# Altium footprint library AudioAmp.PcbLib: 21 footprints (part 2 of 2)
Each footprint in its own frame and in the unit in brackets; x right, y up, seen from the top. Pads: shape width x height; smd on the part's side, far side on the other; paste and mask are expansions set on the pad; w line width, h text height; cw(c..) or ccw(c..) is an arc to the next point about the centre after c.
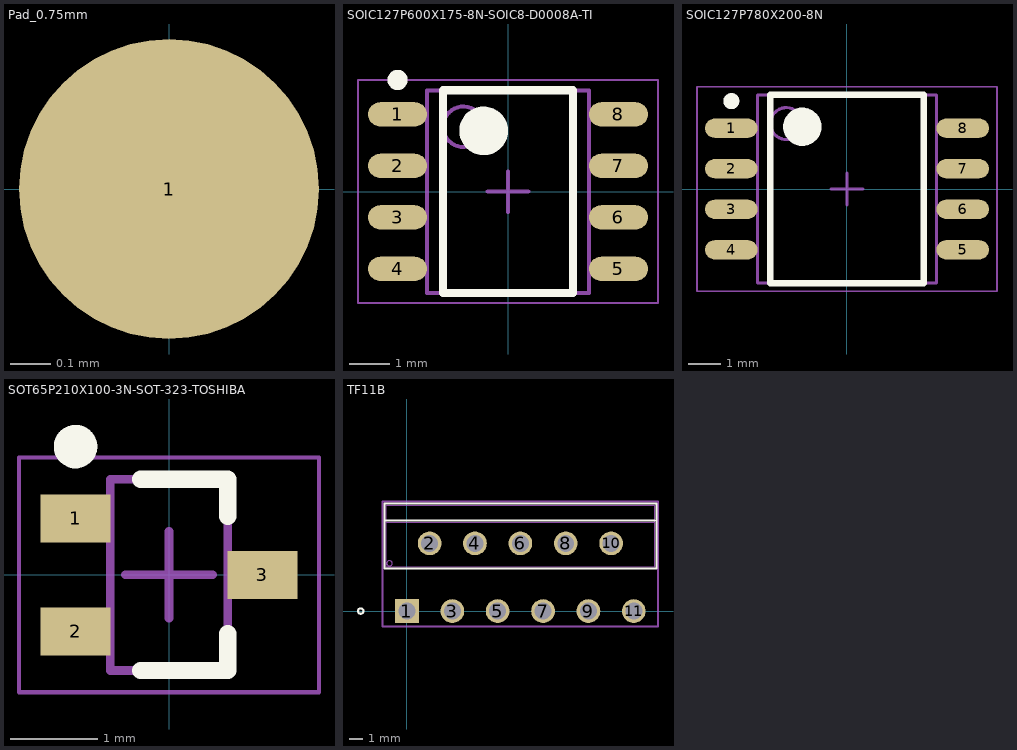
[diagram p1: the footprints below, top view; thin cyan lines are the x and y axes]

## Pad_0.75mm [mm]
pads (1):
  round 0.75 smd: 1(0,0)

## SOIC127P600X175-8N-SOIC8-D0008A-TI [mm] "SOIC, 8-Leads, Body 4.91x3.90mm, Pitch 1.27mm, IPC Medium Density"
height 1.75
pads (8):
  oval 1.45x0.6 smd: 1(-2.725,1.905) 2(-2.725,0.635) 3(-2.725,-0.635) 4(-2.725,-1.905) 5(2.725,-1.905) 6(2.725,-0.635) 7(2.725,0.635) 8(2.725,1.905)
Top Overlay:
  circle w0.6: c-0.6,1.5 r0.3
  circle w0.25: c-2.725,2.755 r0.125
  lines w0.2: -1.6,-2.5 1.6,-2.5 1.6,2.5 -1.6,2.5 -1.6,-2.5
Top Assembly:
  circle w0.1: c-1.1,1.6 r0.5
  lines w0.1: -2,-2.5 2,-2.5 2,2.5 -2,2.5 -2,-2.5
Top Courtyard:
  lines w0.05: -3.7,-2.75 3.7,-2.75 3.7,2.75 -3.7,2.75 -3.7,-2.75
  lines w0.1: -0.5,0 0.5,0 ; 0,-0.5 0,0.5
3D body "SOIC127P600X175-8N-SOIC8-D0008A-TI.step": height 1.75, standoff 0, extent -2.997,-2.5 2.997,2.5

## SOIC127P780X200-8N [mm] "SOIC, 8-Leads, Body 6.20x5.30mm, Pitch 1.27mm, IPC Medium Density"
height 2
pads (8):
  oval 1.65x0.6 smd: 1(-3.625,1.905) 2(-3.625,0.635) 3(-3.625,-0.635) 4(-3.625,-1.905) 5(3.625,-1.905) 6(3.625,-0.635) 7(3.625,0.635) 8(3.625,1.905)
Top Overlay:
  circle w0.6: c-1.4,1.95 r0.3
  circle w0.25: c-3.625,2.755 r0.125
  lines w0.2: -2.4,-2.95 2.4,-2.95 2.4,2.95 -2.4,2.95 -2.4,-2.95
Mechanical 13:
  circle w0.1: c-1.9,2.05 r0.5
  lines w0.1: -2.8,-2.95 2.8,-2.95 2.8,2.95 -2.8,2.95 -2.8,-2.95
Mechanical 15:
  lines w0.05: -4.7,-3.2 4.7,-3.2 4.7,3.2 -4.7,3.2 -4.7,-3.2
  lines w0.1: -0.5,0 0.5,0 ; 0,-0.5 0,0.5
3D body: height 0.25, standoff 0, extent -3.9,-2.95 3.9,2.95

## SOT65P210X100-3N-SOT-323-TOSHIBA [mm] "3-Leads, Body 2.00x2.10mm, Pitch 0.65mm, IPC Medium Density"
height 1
pads (3):
  rect 0.8x0.55 smd: 1(-1.075,0.65) 2(-1.075,-0.65) 3(1.075,0)
Top Overlay:
  circle w0.25: c-1.075,1.475 r0.125
  lines w0.2: -0.325,-1.1 0.675,-1.1 0.675,-0.675 ; -0.325,1.1 0.675,1.1 0.675,0.675
Top Assembly:
  lines w0.1: -0.675,-1.1 -0.675,1.1 0.675,1.1 0.675,-1.1 -0.675,-1.1
Top Courtyard:
  lines w0.05: -1.725,-1.35 -1.725,1.35 1.725,1.35 1.725,-1.35 -1.725,-1.35
  lines w0.1: -0.5,0 0.5,0 ; 0,-0.5 0,0.5
3D body "SOT65P210X100-3N-SOT-323-TOSHIBA.step": height 1, standoff 0, extent -1.1,-1.1 1.1,1.1

## TF11B [mil]
pads (11):
  rect 70x70 hole 50 mask+0: 1(0,0)
  round 70 hole 50 mask+0: 2(67,200) 3(134,0) 4(201,200) 5(268,0) 6(335,200) 7(402,0) 8(469,200) 9(536,0) 10(603,200) 11(670,0)
Top Overlay:
  circle w6: c-136.5,0 r8
  lines w6: -61.5,268 731.5,268 ; -66.5,126 736.5,126 736.5,318 -66.5,318 -66.5,126
Top Courtyard:
  lines w6: -71.5,-45 741.5,-45 741.5,323 -71.5,323 -71.5,-45
Mechanical 13:
  circle w0: c-51.5,141 r8
  lines w1: -61.5,263 731.5,263 ; -61.5,131 731.5,131 731.5,313 -61.5,313 -61.5,131
  text "TAB" at 316.25,275.5 h25
3D body "TF11B.step": height 1103.86, standoff -63.15, extent -61.49,-19.99 731.51,313